# Altium schematic symbol library CAP,Alum,100uF,10VDC,SMD.Schlib: 1 symbol
Pins are listed as number, name and electrical type; pins without a type are passive.

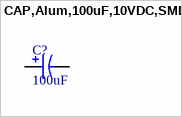
[diagram p0: symbol CAP,Alum,100uF,10VDC,SMD]

## CAP,Alum,100uF,10VDC,SMD
designator C?, comment 100uF
CAP ALUM 100UF 20% 10V SMD
pins: 1, 2